# EAGLE library part TSSOP28-BRK (library robot-hand)
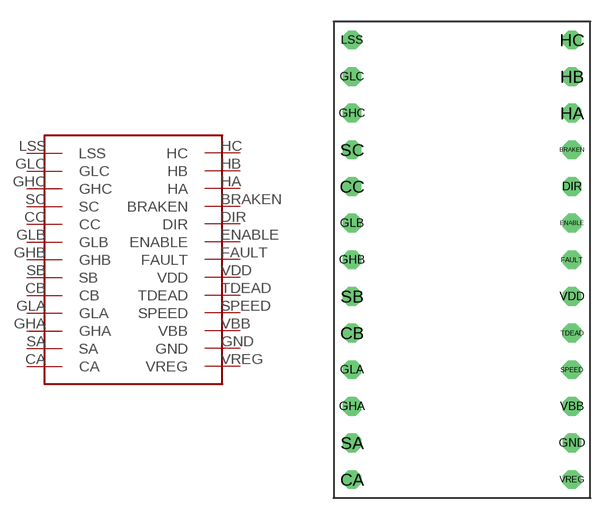
[diagram p10: symbol with the pads of TSSOP28-BRK; footprint TSSOP28-BRK]

Designator prefix -

## TSSOP28-BRK  [TSSOP28-BRK]
BRAKEN  BRAKEN
CA  CA
CB  CB
CC  CC
DIR  DIR
ENABLE  ENABLE
FAULT  FAULT
GHA  GHA
GHB  GHB
GHC  GHC
GLA  GLA
GLB  GLB
GLC  GLC
GND  GND
HA  HA
HB  HB
HC  HC
LSS  LSS
SA  SA
SB  SB
SC  SC
SPEED  SPEED
TDEAD  TDEAD
VBB  VBB
VDD  VDD
VREG  VREG

## Footprint TSSOP28-BRK (pad centres in mm)
drill 0.8 octagon: BRAKEN 7.62,8.89; CA -7.62,-13.97; CB -7.62,-3.81; CC -7.62,6.35; DIR 7.62,6.35; ENABLE 7.62,3.81; FAULT 7.62,1.27; GHA -7.62,-8.89; GHB -7.62,1.27; GHC -7.62,11.43; GLA -7.62,-6.35; GLB -7.62,3.81; GLC -7.62,13.97; GND 7.62,-11.43; HA 7.62,11.43; HB 7.62,13.97; HC 7.62,16.51; LSS -7.62,16.51; SA -7.62,-11.43; SB -7.62,-1.27; SC -7.62,8.89; SPEED 7.62,-6.35; TDEAD 7.62,-3.81; VBB 7.62,-8.89; VDD 7.62,-1.27; VREG 7.62,-13.97